# Altium schematic symbol library Miscellaneous Modules.SchLib: 28 symbols
Pins are listed as number, name and electrical type; pins without a type are passive.

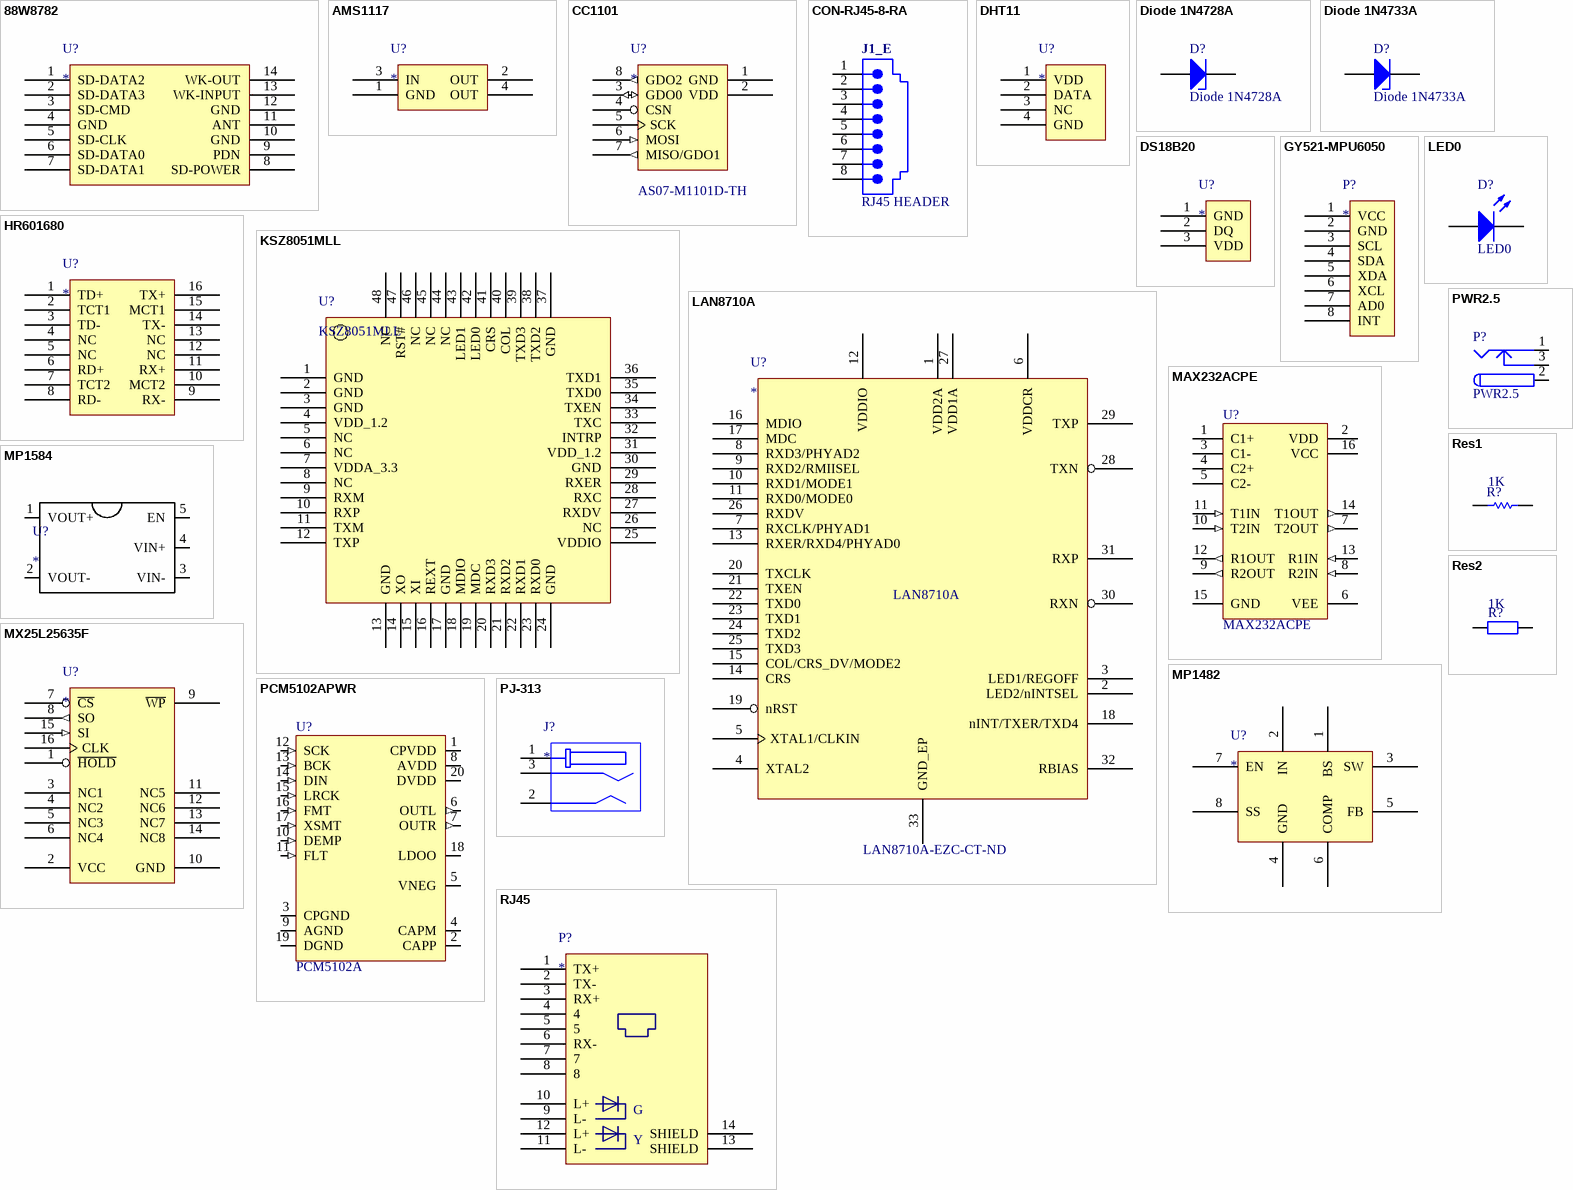
[diagram p0: symbols 88W8782 to RJ45]

## 88W8782
designator U?
802.11n Wireless Module
pins: 1 SD-DATA2, 2 SD-DATA3, 3 SD-CMD, 4 GND, 5 SD-CLK, 6 SD-DATA0, 7 SD-DATA1, 8 SD-POWER, 9 PDN, 10 GND, 11 ANT, 12 GND, 13 WK-INPUT, 14 WK-OUT

## AMS1117
designator U?
AM1117; Manufacturer: STMicroelectronics; Manufacturer Part Number: LD1117S-12TR; Input Voltage Min: 1.4V; Input Voltage Max: 15V; Output Voltage Nom.: 1.2V; Output Current: 800mA; Dropout Voltage Vdo: 1.1V; LDO Regulator Case Style: SOT-223; No. of Pins: 3Pins; Product Range: LD1117 Series; SVHC: No SVHC (17-Dec-2015); Supplier 1: Digikey; Stock 1: 2500; Pricing 1: 2500=0.155, 5000=0.145, 12500=0.135, 25000=0.128, 62500=0.125 (USD); Operating Temperature Min: 0°C; Operating Temperature Max: 125°C; Packaging: Cut Tape; MSL: MSL 1 - Unlimited; ComponentLink1URL: https://datasheet.ciiva.com/1511/1776449-1511569.pdf; ComponentLink1Description: https://datasheet.ciiva.com/1511/1776449-1511569.pdf; ComponentLink2URL: https://datasheet.ciiva.com/2053/cd00000544-2053511.pdf; ComponentLink2Description: https://datasheet.ciiva.com/2053/cd00000544-2053511.pdf; ComponentLink3URL: https://datasheet.ciiva.com/2053/cd00000544-2053512.pdf; ComponentLink3Description: https://datasheet.ciiva.com/2053/cd00000544-2053512.pdf; ComponentLink4URL: https://datasheet.ciiva.com/2053/cd00000544-2053513.pdf; ComponentLink4Description: https://datasheet.ciiva.com/2053/cd00000544-2053513.pdf; ComponentLink5URL: https://datasheet.ciiva.com/29696/1390207-29696618.pdf; ComponentLink5Description: https://datasheet.ciiva.com/29696/1390207-29696618.pdf; ComponentLink6URL: https://datasheet.ciiva.com/7992/1776449-7992619.pdf; ComponentLink6Description: https://datasheet.ciiva.com/7992/1776449-7992619.pdf; ComponentLink7URL: https://datasheet.ciiva.com/41440/001185296-da-01-en-ic-reg-ldo-1-2v-ld1117s12tr-sot-223-stm-41440310.pdf; ComponentLink7Description: https://datasheet.ciiva.com/41440/001185296-da-01-en-ic-reg-ldo-1-2v-ld1117s12tr-sot-223-stm-41440310.pdf
footprint SOT223-4M (SOT223, 4-Leads, Body 6.5x3.5mm, Pitch 2.3mm, Lead Span 7mm, IPC Low Density)
pins: 1 GND, 2 OUT, 3 IN, 4 OUT

## CC1101
designator U?
CC1101; Manufacturer: Texas Instruments (TI); Manufacturer Part Number: CC1101RGP; Frequency Range: 300 MHz to 348 MHz, 391 MHz to 464 MHz, 782 MHz to 928 MHz; Maximum Data Rate: 500 kb/s; Modulation Format: 2-FSK, 4-FSK, ASK, GFSK, MSK, OOK; Output Power: 12 dBm; Operating Supply Voltage: 1.8 V to 3.6 V; Interface Type: SPI; Brand: Texas Instruments; Number of Receivers: 1; Sensitivity: - 116 dBm; Supply Current Receiving: 14 mA; Supply Voltage - Max: 3.6 V; Supply Voltage - Min: 1.8 V; Supplier 1: Digikey; Stock 1: 0; Pricing 1: 184=4.059 (USD); Product Category: RF Transceiver; RoHS: Details; Type: Wi-Fi; Maximum Operating Temperature: + 85 C; Package / Case: VQFN-20; Packaging: Tube; Minimum Operating Temperature: - 40 C; Mounting Style: SMD/SMT; Number of Transmitters: 1; Series: CC1101; Factory Pack Quantity: 92; ComponentLink1URL: https://datasheet.ciiva.com/23815/1719597-23815626.pdf; ComponentLink1Description: https://datasheet.ciiva.com/23815/1719597-23815626.pdf; ComponentLink2URL: https://datasheet.ciiva.com/15309/swrs061i-317099-15309888.pdf; ComponentLink2Description: https://datasheet.ciiva.com/15309/swrs061i-317099-15309888.pdf; ComponentLink3URL: https://datasheet.ciiva.com/26913/getdatasheetpartid-739309-26913178.pdf; ComponentLink3Description: https://datasheet.ciiva.com/26913/getdatasheetpartid-739309-26913178.pdf; Supplier Part Number 1: CC1101RGP-ND; Order Link: https://item.taobao.com/item.htm?spm=a1z09.2.0.0.0HJvpv&id=36617396595&_u=88jolfh2abc
pins: 1 GND, 2 VDD, 3 GDO0 (io), 4 CSN, 5 SCK, 6 MOSI (in), 7 MISO/GDO1 (out), 8 GDO2 (out)
text: AS07-M1101D-TH

## CON-RJ45-8-RA
designator J1_E, comment RJ45 HEADER
Connector, RJ45 Socket, Right-Angle, 8 Way (Ethernet), PCM8P8C; Category: Connector; Connector type: RJ45 HEADER; Status: Production
footprint 15-43-6233
pins: 1, 2, 3, 4, 5, 6, 7, 8

## DHT11
designator U?
DHT11; Manufacturer: Sensirion; Manufacturer Part Number: SHT11; Humidity Sensor Type: Capacitive; Humidity Range: 0% to 100% Relative Humidity; Supply Voltage: 3.3V; Sensor Case Style: LCC; No. of Pins: 8; Response Time: 8s; SVHC: No SVHC (20-Jun-2013); Leaded Process Compatible: Yes; Sensitivity: ± 1%; Humidity Accuracy ±: 3%; Supplier 1: Digikey; Stock 1: 500; Pricing 1: 100=13.671, 300=13.23, 500=12.789 (USD); Package / Case: 4-LCC SMD; Peak Reflow Compatible (260 C): Yes; RoHS Compliant: Yes; Humidity Accuracy ?: 3%; Sensing Accuracy: 3%; Packaging: Cut Tape; Accuracy %: 3%; Operating Temperature Max: 125°C; Operating Temperature Min: -40°C; ComponentLink1URL: https://datasheet.ciiva.com/1293/sensirion-humidity-sht1x-datasheet-v5-1293456.pdf; ComponentLink1Description: https://datasheet.ciiva.com/1293/sensirion-humidity-sht1x-datasheet-v5-1293456.pdf; ComponentLink2URL: https://datasheet.ciiva.com/23951/317085-23951520.pdf; ComponentLink2Description: https://datasheet.ciiva.com/23951/317085-23951520.pdf; ComponentLink3URL: https://datasheet.ciiva.com/22712/1563786-22712371.pdf; ComponentLink3Description: https://datasheet.ciiva.com/22712/1563786-22712371.pdf
pins: 1 VDD, 2 DATA, 3 NC, 4 GND

## Diode 1N4728A
designator D?
Diodes Zener 1W 3.3V; Manufacturer Part Number: 1N4728A-T; Voltage Tolerance: 5 %; Voltage Temperature Coefficient: - 0.05 %/C; Zz - Zener Impedance: 10 Ohms; Configuration: Single; Brand: Diodes Incorporated; Ir - Reverse Current: 100 uA; Unit Weight: 0.010582 oz; Supplier 1: Digikey; Manufacturer: Diodes; Stock 1: 0; Pricing 1: 1=0.43, 10=0.306, 25=0.238, 100=0.1802, 250=0.1274, 500=0.102, 1000=0.0782, 2500=0.068 (USD); Product Category: Zener Diodes; RoHS: True; Vz - Zener Voltage: 3.3 V; Mounting Style: Through Hole; Package / Case: DO-41; Pd - Power Dissipation: 1 W; Maximum Operating Temperature: + 175 C; Packaging: Reel; Height: 2.71 mm; Length: 4.7 mm; Minimum Operating Temperature: - 65 C; Series: 1N47; Factory Pack Quantity: 5000; Width: 2.71 mm; &lt;PCN&gt;: http://www.mouser.com/PCN/Diodes_Inc_2126.pdf; ComponentLink1URL: https://datasheet.ciiva.com/15219/getdatasheetpartid-157328-15219557.pdf; ComponentLink1Description: https://datasheet.ciiva.com/15219/getdatasheetpartid-157328-15219557.pdf; ComponentLink2URL: https://datasheet.ciiva.com/25927/ds18007-25927078.pdf; ComponentLink2Description: https://datasheet.ciiva.com/25927/ds18007-25927078.pdf; ComponentLink3URL: https://datasheet.ciiva.com/16312/ds18007-16312111.pdf; ComponentLink3Description: https://datasheet.ciiva.com/16312/ds18007-16312111.pdf
footprint DO-41 (Diode, Axial; Body 5.2 x 2.7 mm (LxDia. max), Lead Dia. 0.86 mm (max))
pins: 1 A, 2 K

## Diode 1N4733A
designator D?
DIODE ZENER 5.1V 1W DO41; Manufacturer: Diodes; Manufacturer Part Number: 1N4733A-T; Voltage Tolerance: 5 %; Voltage Temperature Coefficient: 0.015 %/C; Zz - Zener Impedance: 7 Ohms; Configuration: Single; Brand: Diodes Incorporated; Ir - Reverse Current: 10 uA; Unit Weight: 0.010582 oz; Published: 8-Jun-2000; LatestRevisionDate: 17-Jul-2002; LatestRevisionNote: Re-released for DXP Platform.; DatasheetVersion: 1997; PackageReference: DO-35; Publisher: Altium Limited; PackageDescription: Diode, Axial; Body 3.8 x 1.9 mm (LxDia. max), Lead Dia. 0.53 mm (max); Code_JEDEC: DO-204-AH; ComponentLink1Description: Manufacturer Link; ComponentLink1URL: http://www.fairchildsemi.com/; ComponentLink2Description: Datasheet; ComponentLink2URL: http://www.fairchildsemi.com/ds/1N%2F1N4448.pdf; Supplier 1: Digikey; Stock 1: 0; Pricing 1: 1=0.43, 10=0.306, 25=0.238, 100=0.1802, 250=0.1274, 500=0.102, 1000=0.0782, 2500=0.068 (USD); Product Category: Zener Diodes; RoHS: True; Vz - Zener Voltage: 5.1 V; Mounting Style: Through Hole; Package / Case: DO-41; Pd - Power Dissipation: 1 W; Maximum Operating Temperature: + 175 C; Packaging: Reel; Height: 2.71 mm; Length: 4.7 mm; Minimum Operating Temperature: - 65 C; Series: 1N47; Factory Pack Quantity: 5000; Width: 2.71 mm; &lt;PCN&gt;: http://www.mouser.com/PCN/Diodes_Inc_2126.pdf; ComponentLink3URL: https://datasheet.ciiva.com/25927/ds18007-25927157.pdf; ComponentLink3Description: https://datasheet.ciiva.com/25927/ds18007-25927157.pdf; ComponentLink4URL: https://datasheet.ciiva.com/10639/ds18007-10639654.pdf; ComponentLink4Description: https://datasheet.ciiva.com/10639/ds18007-10639654.pdf; ComponentLink5URL: https://datasheet.ciiva.com/8346/ds18007-8346231.pdf; ComponentLink5Description: https://datasheet.ciiva.com/8346/ds18007-8346231.pdf; ComponentLink6URL: https://datasheet.ciiva.com/892/ds18007-892024.pdf; ComponentLink6Description: https://datasheet.ciiva.com/892/ds18007-892024.pdf; ComponentLink7URL: https://datasheet.ciiva.com/892/ds18007-892025.pdf; ComponentLink7Description: https://datasheet.ciiva.com/892/ds18007-892025.pdf; ComponentLink8URL: https://datasheet.ciiva.com/15219/getdatasheetpartid-295066-15219562.pdf; ComponentLink8Description: https://datasheet.ciiva.com/15219/getdatasheetpartid-295066-15219562.pdf; ComponentLink9URL: https://datasheet.ciiva.com/34302/1538030-34302347.pdf; ComponentLink9Description: https://datasheet.ciiva.com/34302/1538030-34302347.pdf; ComponentLink10URL: https://datasheet.ciiva.com/16203/ds18007-16203966.pdf; ComponentLink10Description: https://datasheet.ciiva.com/16203/ds18007-16203966.pdf
footprint DO-35 (Diode, Axial; Body 3.8 x 1.9 mm (LxDia. max), Lead Dia. 0.53 mm (max))
pins: 1 A, 2 K

## DS18B20
designator U?
MAXIM INTEGRATED PRODUCTS         DS18B20+.             12bit,  0.5C 1 Wire Digital Thermometer with Programmable Resolution in TO-92-3 Package; SVHC: To Be Advised; Sensing Accuracy Range: ± 0.5°C; Sensing Temperature Min: -55°C; Sensing Temperature Max: +125°C; Supply Voltage Min: 3V; Supply Voltage Max: 5.5V; Sensor Case Style: TO-92; No. of Pins: 3; Supply Current: 1mA; Base Number: 18; IC Generic Number: 18B20; Output Current: 4mA; Sensor / Transducer Type: Temperature; Supply Voltage Range: 3V to 5.5V; Temperature Sensing Range: -55°C to +125°C; Supplier 1: Digikey; Manufacturer: Maxim; Manufacturer Part Number: DS18B20+; Stock 1: 9817; Pricing 1: 1=2.78, 10=2.678 (USD); IC Output Type: Digital; Resolution (Bits): 12bit; MSL: (Not Available); Device Marking: DS18B20+; Logic Function Number: 18B20; Operating Temperature Max: 125°C; Operating Temperature Min: -55°C; Operating Temperature Range: -55°C to +125°C; Package / Case: TO-92; Resolution: 12bit; ComponentLink1URL: https://datasheet.ciiva.com/14100/ds18b20-eng-tds-14100018.pdf; ComponentLink1Description: https://datasheet.ciiva.com/14100/ds18b20-eng-tds-14100018.pdf; ComponentLink2URL: https://datasheet.ciiva.com/46354/136-ds18b20-46354613.pdf; ComponentLink2Description: https://datasheet.ciiva.com/46354/136-ds18b20-46354613.pdf; ComponentLink3URL: https://datasheet.ciiva.com/23809/46379-23809287.pdf; ComponentLink3Description: https://datasheet.ciiva.com/23809/46379-23809287.pdf; ComponentLink4URL: https://datasheet.ciiva.com/16470/ds18b20-16470492.pdf; ComponentLink4Description: https://datasheet.ciiva.com/16470/ds18b20-16470492.pdf; ComponentLink5URL: https://datasheet.ciiva.com/19456/865936-19456316.pdf; ComponentLink5Description: https://datasheet.ciiva.com/19456/865936-19456316.pdf; ComponentLink6URL: https://datasheet.ciiva.com/2003/ds18b20-2003437.pdf; ComponentLink6Description: https://datasheet.ciiva.com/2003/ds18b20-2003437.pdf; ComponentLink7URL: https://datasheet.ciiva.com/3277/ds18b20-3277869.pdf; ComponentLink7Description: https://datasheet.ciiva.com/3277/ds18b20-3277869.pdf; ComponentLink8URL: https://datasheet.ciiva.com/5696/ds18s20-5696782.pdf; ComponentLink8Description: https://datasheet.ciiva.com/5696/ds18s20-5696782.pdf; ComponentLink9URL: https://datasheet.ciiva.com/26887/ds18b20-26887123.pdf; ComponentLink9Description: https://datasheet.ciiva.com/26887/ds18b20-26887123.pdf
pins: 1 GND, 2 DQ, 3 VDD

## GY521-MPU6050
designator P?
INVENSENSE   MPU-6050   MEMS Module, Tri-Axis Gyroscope, Tri-Axis Accelerometer, 2.5 V, 3.6 V, QFN, 24 Pins; Unit PriceUSD: Digital; Dynamic Catalog: MPU-6000™ Series; Featured Product: MPU-6050 6-Axis, Integrated I²C Solution; Sensor Type: Motion Tracking; Other Names: 1428-1007-2 / MPU6050; Supplier 1: Digikey; Manufacturer: Invensense; Manufacturer Part Number: MPU-6050; Stock 1: 10000; Pricing 1: 5000=3.4979 (USD); Standard Package: 5,000; Category: Sensors, Transducers; Family: Multifunction; Output Type: Digital; Online Catalog: MPU-6000™ Series; ComponentLink1URL: https://datasheet.ciiva.com/1513/1788002-1513632.pdf; ComponentLink1Description: https://datasheet.ciiva.com/1513/1788002-1513632.pdf; ComponentLink2URL: https://datasheet.ciiva.com/22731/1788002-22731434.pdf; ComponentLink2Description: https://datasheet.ciiva.com/22731/1788002-22731434.pdf
pins: 1 VCC, 2 GND, 3 SCL, 4 SDA, 5 XDA, 6 XCL, 7 AD0, 8 INT

## HR601680
designator U?
HanRun 10/100Base-TX Transformer Module
footprint HR601680 (10/100Base-TX Transformer Module)
pins: 1 TD+, 2 TCT1, 3 TD-, 4 NC, 5 NC, 6 RD+, 7 TCT2, 8 RD-, 9 RX-, 10 MCT2, 11 RX+, 12 NC, 13 NC, 14 TX-, 15 MCT1, 16 TX+

## KSZ8051MLL
designator U?
KSZ8051MLL Physical Layer Transceiver KSZ8051/8031/8021 Series; Manufacturer: Microchip Micrel; Mfg Application Notes: Migrating to KSZ8051 Family PHY Transceivers; PCN Obsolescence/ EOL: KSZ8051/31/21 Revision A 02/May/2014 KSZ8051/KSZ8031/KSZ8021 Devices 30/Aug/2013; Protocol: MII; Number of Drivers/Receivers: 1/1; Duplex: Full; Voltage - Supply: 1.8V, 2.5V, 3.3V; For Use With: 576-3864-ND  - BOARD EVALUATION FOR KSZ8051MLL; Other Names: 576-3731; Supplier 1: Digi-Key; Supplier 2: Farnell; Supplier 3: Digi-Key; Manufacturer Part Number: KSZ8051MLL; Stock 3: 0; Pricing 3: 1000=0.9519 (USD); Featured Product: KSZ8051MLL Physical Layer Transceiver KSZ8051/8031/8021 Series; Standard Package: 250; Category: Integrated Circuits (ICs); Family: Interface - Drivers, Receivers, Transceivers; Series: -; Packaging: Tray; Type: Transceiver; Receiver Hysteresis: -; Data Rate: -; Operating Temperature: 0°C ~ 70°C; Mounting Type: Surface Mount; Package / Case: 48-LQFP; Supplier Device Package: 48-LQFP (7x7); ComponentLink1URL: https://datasheet.ciiva.com/1141/1508786-1141612.pdf; ComponentLink1Description: https://datasheet.ciiva.com/1141/1508786-1141612.pdf; ComponentLink2URL: https://datasheet.ciiva.com/1704/ksz8051mll-1704993.pdf; ComponentLink2Description: https://datasheet.ciiva.com/1704/ksz8051mll-1704993.pdf
footprint STM-LQFP48_M (QFP, 48-Leads, Body 7x7mm, Pitch 0.5mm, IPC Low Density)
pins: 1 GND, 2 GND, 3 GND, 4 VDD_1.2, 5 NC, 6 NC, 7 VDDA_3.3, 8 NC, 9 RXM, 10 RXP, 11 TXM, 12 TXP, 13 GND, 14 XO, 15 XI, 16 REXT, 17 GND, 18 MDIO, 19 MDC, 20 RXD3, 21 RXD2, 22 RXD1, 23 RXD0, 24 GND, 25 VDDIO, 26 NC, 27 RXDV, 28 RXC, 29 RXER, 30 GND, 31 VDD_1.2, 32 INTRP, 33 TXC, 34 TXEN, 35 TXD0, 36 TXD1, 37 GND, 38 TXD2, 39 TXD3, 40 COL, 41 CRS, 42 LED0, 43 LED1, 44 NC, 45 NC, 46 NC, 47 RST#, 48 NC

## LAN8710A
designator U?  Supplier Part Number 1: LAN8710A-EZC-CT-ND
Ethernet ICs 10/100 Ethernet XCVR HP AutoMDIX FlexPwr; Manufacturer: Microchip; Manufacturer Part Number: LAN8710A-EZC-TR; Protocol: MII, RMII; Number of Drivers/Receivers: 4/4; Duplex: Full; Voltage - Supply: 1.6 V ~ 3.6 V; Supplier 1: Digi-Key; Stock 1: 5928; Pricing 1: 1=1.31, 25=1.0936 (USD); Category: Integrated Circuits (ICs); Family: Interface - Drivers, Receivers, Transceivers; Series: -; Packaging: Digi-Reel®; Type: Transceiver; Receiver Hysteresis: -; Data Rate: -; Operating Temperature: 0°C ~ 85°C; Mounting Type: Surface Mount; Package / Case: 32-VFQFN Exposed Pad; Supplier Device Package: 32-QFN (5x5); ComponentLink1URL: https://datasheet.ciiva.com/26913/getdatasheetpartid-766967-26913043.pdf; ComponentLink1Description: https://datasheet.ciiva.com/26913/getdatasheetpartid-766967-26913043.pdf; ComponentLink2URL: https://datasheet.ciiva.com/24152/8710a-24152353.pdf; ComponentLink2Description: https://datasheet.ciiva.com/24152/8710a-24152353.pdf; ComponentLink3URL: https://datasheet.ciiva.com/29718/8710adb-29718637.pdf; ComponentLink3Description: https://datasheet.ciiva.com/29718/8710adb-29718637.pdf; ComponentLink4URL: https://datasheet.ciiva.com/29718/8710adb-29718636.pdf; ComponentLink4Description: https://datasheet.ciiva.com/29718/8710adb-29718636.pdf
footprint QFN32 5x5mm (HVQFN, 32-Leads, Body 5.00x5.00mm, Pitch 0.50mm, Thermal Pad 3.60x3.60mm, IPC Medium Density)
pins: 1 VDD2A, 2 LED2/nINTSEL, 3 LED1/REGOFF, 4 XTAL2, 5 XTAL1/CLKIN, 6 VDDCR, 7 RXCLK/PHYAD1, 8 RXD3/PHYAD2, 9 RXD2/RMIISEL, 10 RXD1/MODE1, 11 RXD0/MODE0, 12 VDDIO, 13 RXER/RXD4/PHYAD0, 14 CRS, 15 COL/CRS_DV/MODE2, 16 MDIO, 17 MDC, 18 nINT/TXER/TXD4, 19 nRST, 20 TXCLK, 21 TXEN, 22 TXD0, 23 TXD1, 24 TXD2, 25 TXD3, 26 RXDV, 27 VDD1A, 28 TXN, 29 TXP, 30 RXN, 31 RXP, 32 RBIAS, 33 GND_EP

## LED0
designator D?
Published: 8-Jun-2000; LatestRevisionDate: 08-Jul-2005; LatestRevisionNote: Mech Layer 1 removed.; PackageReference: LED-0; Publisher: Altium Limited; PackageDescription: LED; 2 Leads
footprint LED-R3.0 (LED RED DIFF 3MM ROUND T/H)
pins: 1 A, 2 K

## MAX232ACPE
designator U?
+5V Powered, Multi-Channel RS-232 Driver/Receiver; PackageDocument: 1997; Published: 16-Jan-2001; LatestRevisionDate: 6-Jun-2005; LatestRevisionNote: Stylized 3D Model Added.; PackageReference: PE16A; Publisher: Altium Limited; Code_JEDEC: MS-001-BB; ComponentLink1Description: Manufacturer Link; ComponentLink1URL: http://www.maxim-ic.com/; ComponentLink2Description: Datasheet; ComponentLink2URL: http://pdfserv.maxim-ic.com/en/ds/MAX220-MAX249.pdf
footprint MAX3232
pins: 1 C1+, 2 VDD (power), 3 C1-, 4 C2+, 5 C2-, 6 VEE (power), 7 T2OUT (out), 8 R2IN (in), 9 R2OUT (out), 10 T2IN (in), 11 T1IN (in), 12 R1OUT (out), 13 R1IN (in), 14 T1OUT (out), 15 GND (power), 16 VCC (power)
2 alternate drawings of the same symbol

## MP1482
designator U?
Voltage Regulators - Switching Regulators 2A, 18V Sync Step-Down DCDC; Manufacturer: Monolithic Power Systems; Manufacturer Part Number: MP1482DS-LF; Output Voltage: 923 mV to 15 V; Number of Outputs: 1 Output; Topology: Buck; Input Voltage MIN: 4.75 V; Switching Frequency: 340 kHz; Brand: Monolithic Power Systems (MPS); Operating Supply Current: 1.3 mA; Unit Weight: 0.019048 oz; Supplier 1: Digi-Key; Stock 1: 0; Pricing 1: 100=2.2275 (USD); Product Category: Voltage Regulators - Switching Regulators; RoHS: True; Mounting Style: SMD/SMT; Package / Case: SOIC-8; Output Current: 2 A; Input Voltage MAX: 18 V; Maximum Operating Temperature: + 85 C; Series: MP1482; Minimum Operating Temperature: - 40 C; Packaging: Tube; Type: Voltage Regulator; ComponentLink1URL: https://datasheet.ciiva.com/12084/mp1482-r1-31-12084709.pdf; ComponentLink1Description: https://datasheet.ciiva.com/12084/mp1482-r1-31-12084709.pdf
pins: 1 BS, 2 IN, 3 SW, 4 GND, 5 FB, 6 COMP, 7 EN, 8 SS

## MP1584
designator U?
3.3V Voltage Regulators - Switching Regulators 3A 1.5MHz 28V Nonsync Buck; Manufacturer: Monolithic Power Systems (MPS); Manufacturer Part Number: MP1584EN-LF; Input Voltage: 4.5 V; Operating Supply Voltage: 4.5 V to 28 V; Number of Outputs: 1 Output; Supplier 1: Digikey; Stock 1: 0; Pricing 1: 100=2.1525 (USD); Operating Temperature Range: - 20 C to + 85 C; Product Category: Voltage Regulators - Switching Regulators; RoHS: Details; Topology: Buck; Input Voltage MAX: 28 V; Switching Frequency: 1.5 MHz; Output Voltage: 3.3 V; Output Current: 3 A; Mounting Style: SMD/SMT; Package / Case: SOIC-8; Brand: Monolithic Power Systems (MPS); Packaging: Tube; Series: MP1584EN; Factory Pack Quantity: 100; ComponentLink1URL: http://www.monolithicpower.com/Lists/Product_NonSynchronous%20Switcher_5727/DispForm.aspx?ID=77; ComponentLink1Description: http://www.monolithicpower.com/Lists/Product_NonSynchronous%20Switcher_5727/DispForm.aspx?ID=77
pins: 1 VOUT+, 2 VOUT-, 3 VIN-, 4 VIN+, 5 EN

## MX25L25635F
designator U?
IC FLASH 256MBIT 104MHZ 16SOP; Manufacturer: Macronix; Manufacturer Part Number: MX25L25635FMI-10G; Supply Voltage-Nom: 2.7 to 3.6 V; Memory Organization: 256 M x 1 / 128 M ...; Memory Density: 256 Mb; Supplier 1: Digikey; Stock 1: 4642; Pricing 1: 1=3.84 (USD); Temperature Grade: Industrial; Clock Frequency-Max: 104 MHz; ComponentLink1URL: http://media.digikey.com/pdf/Data%20Sheets/Macronix/MX25L25635F.pdf; ComponentLink1Description: http://media.digikey.com/pdf/Data%20Sheets/Macronix/MX25L25635F.pdf
footprint SOP65P640-16M (SOP, 16-Leads, Body 5x4.4mm, Pitch 0.65mm, IPC Low Density)
pins: 1 ~{HOLD}, 2 VCC, 3 NC1, 4 NC2, 5 NC3, 6 NC4, 7 ~{CS}, 8 SO (out), 9 ~{WP}, 10 GND, 11 NC5, 12 NC6, 13 NC7, 14 NC8, 15 SI (in), 16 CLK

## PCM5102APWR
designator U?, comment PCM5102A
IC DAC 16/24/32BIT SRL 20TSSOP; Manufacturer: Texas Instruments; Manufacturer Part Number: PCM5102APWR; Number of Bits: 16, 24, 32; Data Interface: PCM, Serial; Number of Converters: 2; Voltage Supply Source: Analog and Digital; Number of Outputs and Type: 2 Voltage; Sampling Rate (Per Second): 8k ~ 384k; Supplier 1: Digi-Key; Supplier Part Number 1: 296-36707-1-ND; RoHS: RoHS Compliant; Category: Integrated Circuits (ICs); Stock 1: 4057; Pricing 1: 1=5.44, 10=4.876, 25=4.3848, 100=3.9879, 250=3.60992, 500=3.2319, 750=2.92951, 1000=2.7216 (USD); Packaging: Cut Tape (CT); Settling Time: -; Operating Temperature: -25°C ~ 85°C; Mounting Type: Surface Mount; Package / Case: 20-TSSOP (0.173", 4.40mm Width); Supplier Device Package: 20-TSSOP; ComponentLink1URL: http://www.ti.com/lit/ds/symlink/pcm5102a.pdf; ComponentLink1Description: http://www.ti.com/lit/ds/symlink/pcm5102a.pdf
footprint TSSOP-20-1 (TSOP, 20-Leads, Body 6.50x4.40mm, Pitch 0.65mm, IPC Medium Density)
pins: 1 CPVDD, 2 CAPP, 3 CPGND, 4 CAPM, 5 VNEG, 6 OUTL (out), 7 OUTR (out), 8 AVDD, 9 AGND, 10 DEMP (in), 11 FLT (in), 12 SCK (in), 13 BCK (in), 14 DIN (in), 15 LRCK (in), 16 FMT (in), 17 XSMT (in), 18 LDOO, 19 DGND, 20 DVDD

## PJ-313
designator J?
3.5mm Audio Jack
pins: 1, 2, 3

## PWR2.5
designator P?
Low Voltage Power Supply Connector
footprint POWER_STK1
pins: 1 (power), 2 (power), 3 (power)
2 alternate drawings of the same symbol

## Res1
designator R?  value 1K
Resistor; Published: 8-Jun-2000; LatestRevisionDate: 17-Jul-2002; LatestRevisionNote: Re-released for DXP Platform.; PackageReference: AXIAL-0.3; Publisher: Altium Limited; PackageDescription: Axial Device, Thru-Hole; 2 Leads; 0.3 in Pin Spacing
footprint AXIAL-0.3 (Axial Device, Thru-Hole; 2 Leads; 0.3 in Pin Spacing)
simulation model RESISTOR (Resistor)
signal-integrity model Res
pins: 1, 2

## Res2
designator R?  value 1K
Resistor; Published: 8-Jun-2000; LatestRevisionDate: 17-Jul-2002; LatestRevisionNote: Re-released for DXP Platform.; PackageReference: AXIAL-0.4; Publisher: Altium Limited; PackageDescription: Axial Device, Thru-Hole; 2 Leads; 0.4 in Pin Spacing
footprint AXIAL-0.4 (Axial Device, Thru-Hole; 2 Leads; 0.4 in Pin Spacing)
simulation model RESISTOR (Resistor)
signal-integrity model Res
pins: 1, 2

## RJ45
designator P?
RJ45 Connector
footprint RJ45
pins: 1 TX+, 2 TX-, 3 RX+, 4, 5, 6 RX-, 7, 8, 9 L-, 10 L+, 11 L-, 12 L+, 13 SHIELD, 14 SHIELD
text: G; Y

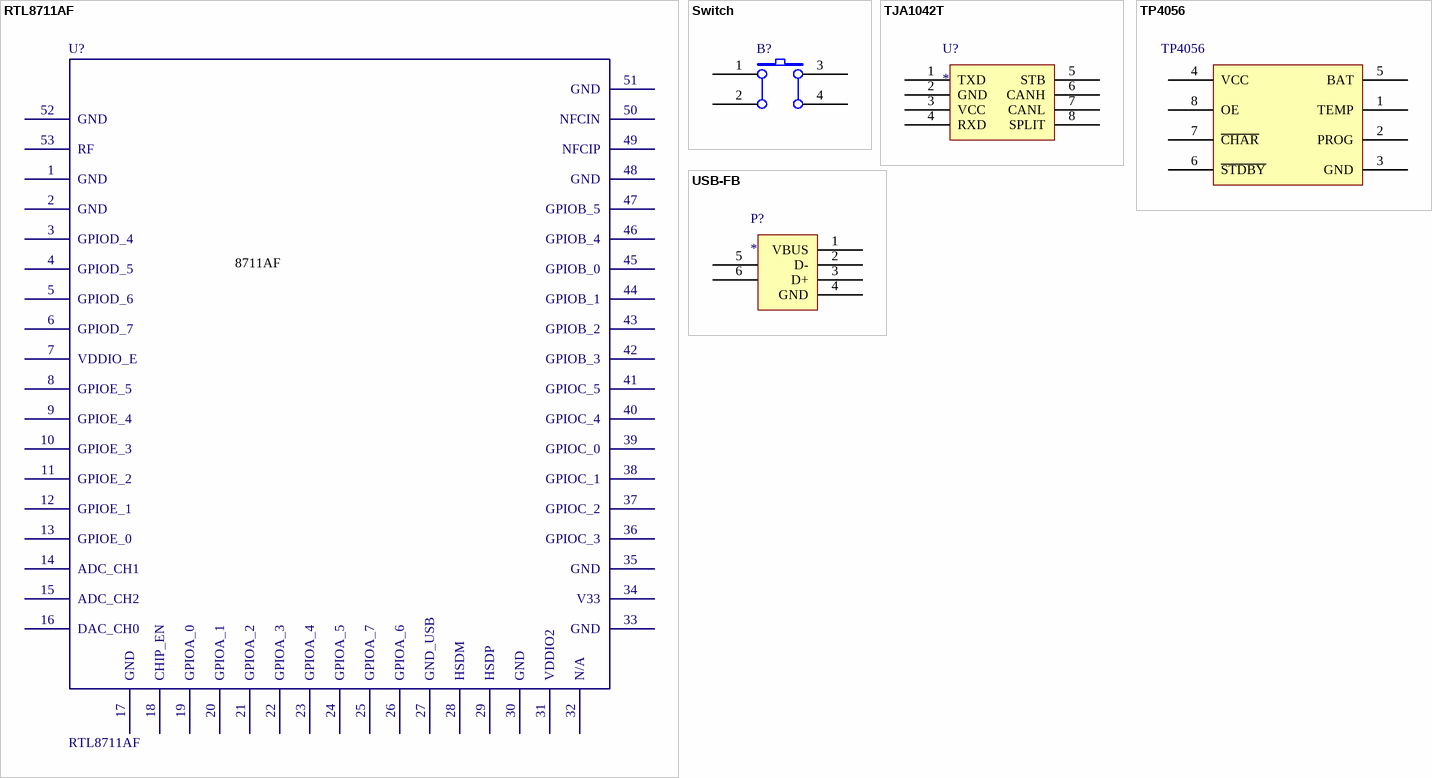
[diagram p1: symbols RTL8711AF to USB-FB]

## RTL8711AF
designator U?
HI-Link RTL8711AF
footprint 53PIN-MODULE-PLATFORM
footprint 53PIN-MODULE-PLATFORM
pins: 1 GND, 2 GND, 3 GPIOD_4, 4 GPIOD_5, 5 GPIOD_6, 6 GPIOD_7, 7 VDDIO_E, 8 GPIOE_5, 9 GPIOE_4, 10 GPIOE_3, 11 GPIOE_2, 12 GPIOE_1, 13 GPIOE_0, 14 ADC_CH1, 15 ADC_CH2, 16 DAC_CH0, 17 GND, 18 CHIP_EN, 19 GPIOA_0, 20 GPIOA_1, 21 GPIOA_2, 22 GPIOA_3, 23 GPIOA_4, 24 GPIOA_5, 25 GPIOA_7, 26 GPIOA_6, 27 GND_USB, 28 HSDM, 29 HSDP, 30 GND, 31 VDDIO2, 32 N/A, 33 GND, 34 V33, 35 GND, 36 GPIOC_3, 37 GPIOC_2, 38 GPIOC_1, 39 GPIOC_0, 40 GPIOC_4, 41 GPIOC_5, 42 GPIOB_3, 43 GPIOB_2, 44 GPIOB_1, 45 GPIOB_0, 46 GPIOB_4, 47 GPIOB_5, 48 GND, 49 NFCIP, 50 NFCIN, 51 GND, 52 GND, 53 RF
text: 8711AF

## Switch
designator B?
Tactile Switch
footprint SWITCH-0.65/0.45 (Tactile Switch 0.65/0.45)
pins: 1 A0, 2 B0, 3 B1, 4 A1

## TJA1042T
designator U?
IC CAN TXRX HI-SPEED 8-SOIC; Manufacturer: NXP Semiconductors; Manufacturer Part Number: TJA1042T,112; Data Rate: 1 Mbps; DELETED: Compliant; Number of Transceivers: 1; Operating Supply Voltage (Max): 5.5 V; Operating Supply Voltage (Min): 4.5 V; Operating Supply Voltage (Typ): 5 V; Power Down Mode: Standby; Rad Hardened: No; Supply Current: 70 mA; Supplier 1: Digi-Key; Stock 1: 1139; Pricing 1: 1=1.36, 10=1.218, 100=0.9499, 500=0.7847, 1000=0.6195 (USD); Category: Transceiver; Mounting: Surface Mount; Operating Temperature (Max): 150C; Operating Temperature (Min): -40C; Operating Temperature Classification: Automotive; Package Type: SO; Packaging: Tube; Pin Count: 8; ComponentLink1URL: https://datasheet.ciiva.com/26828/tja1042t-112-26828964.pdf; ComponentLink1Description: https://datasheet.ciiva.com/26828/tja1042t-112-26828964.pdf; ComponentLink2URL: https://datasheet.ciiva.com/12097/tja1042-12097774.pdf; ComponentLink2Description: https://datasheet.ciiva.com/12097/tja1042-12097774.pdf; ComponentLink3URL: https://datasheet.ciiva.com/16639/tja1042-16639816.pdf; ComponentLink3Description: https://datasheet.ciiva.com/16639/tja1042-16639816.pdf; ComponentLink4URL: https://datasheet.ciiva.com/1767/tja1042-1767365.pdf; ComponentLink4Description: https://datasheet.ciiva.com/1767/tja1042-1767365.pdf
footprint SOIC-8
pins: 1 TXD, 2 GND, 3 VCC, 4 RXD, 5 STB, 6 CANH, 7 CANL, 8 SPLIT

## TP4056
designator TP4056  (value not drawn)
1A Standalone Linear Li-lon Battery Charger with Thermal  Regulation
footprint TP4056
pins: 1 TEMP, 2 PROG, 3 GND, 4 VCC, 5 BAT, 6 ~{STDBY}, 7 ~{CHAR}, 8 OE

## USB-FB
designator P?
Female USB Type B Socket
footprint PN61729
pins: 1 VBUS, 2 D-, 3 D+, 4 GND, 5, 6